# Altium schematic symbol library RDS-10S-74365-D.SchLib: 1 symbol
Pins are listed as number, name and electrical type; pins without a type are passive.

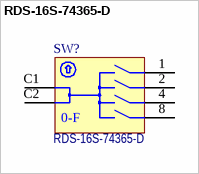
[diagram p0: symbol RDS-16S-74365-D]

## RDS-16S-74365-D
designator SW?
Rotary DIP switch; Потребление, Вт: 0.0; Назначение: Rotary DIP switch; Наименование: RDS-16S-74365-D
footprint RDS-10S-74365-D (Rotary DIP Switch)
pins: 1, 2, 4, 8, C1 C, C2 C
text: 0-F